# EAGLE library part 1803497 (library EW_Connectors)
MCV 1,5/09-G-3,81 Grundgehäuse Nennstrom: 8 A Bemessungsspannung: 160 V Raster: 3,81 mm Polzahl: 9 Montageart: Löten Source: https://www.phoenixcontact.com/us/products/1803497
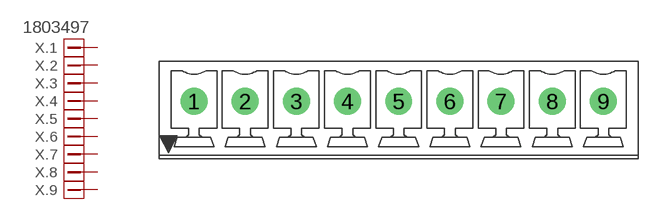
[diagram p16: symbol with the pads of 1803497; footprint 1803497]

Designator prefix X; gates .1=PINV .2=PIN .3=PIN .4=PIN .5=PIN .6=PIN .7=PIN .8=PIN .9=PIN

## 1803497  [1803497]
1  .1:1  pas
2  .2:1  pas
3  .3:1  pas
4  .4:1  pas
5  .5:1  pas
6  .6:1  pas
7  .7:1  pas
8  .8:1  pas
9  .9:1  pas

## Footprint 1803497 (pad centres in mm)
MCV 1,5/14-G-3,81 Grundgehäuse Nennstrom: 8 A Bemessungsspannung: 160 V Raster: 3,81 mm Polzahl: 9 Montageart: Löten Source: https://www.phoenixcontact.com/us/products/1803497
drill 1.2 pad 2: 1 -15.24,0.635; 2 -11.43,0.635; 3 -7.62,0.635; 4 -3.81,0.635; 5 0,0.635; 6 3.81,0.635; 7 7.62,0.635; 8 11.43,0.635; 9 15.24,0.635